# Altium schematic symbol library breath detector.SchLib: 8 symbols
Pins are listed as number, name and electrical type; pins without a type are passive.

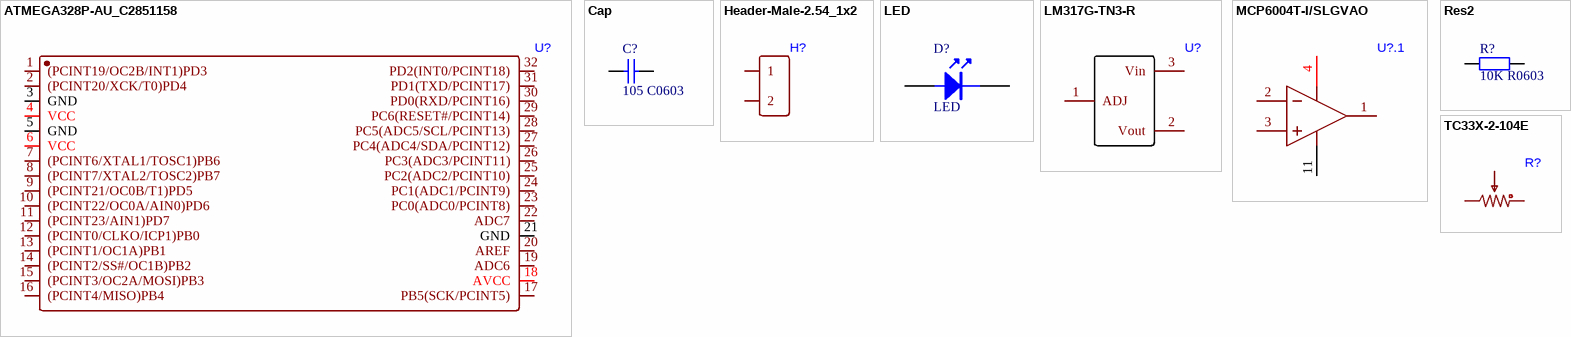
[diagram p0: symbols ATMEGA328P-AU_C2851158 to TC33X-2-104E]

## ATMEGA328P-AU_C2851158
designator U?
footprint TQFP-32_L7.0-W7.0-P0.80-LS9.0-BL
footprint TQFP-32_L7.0-W7.0-P0.80-LS9.0-BL
pins: 1 (PCINT19/OC2B/INT1)PD3, 2 (PCINT20/XCK/T0)PD4, 3 GND, 4 VCC, 5 GND, 6 VCC, 7 (PCINT6/XTAL1/TOSC1)PB6, 8 (PCINT7/XTAL2/TOSC2)PB7, 9 (PCINT21/OC0B/T1)PD5, 10 (PCINT22/OC0A/AIN0)PD6, 11 (PCINT23/AIN1)PD7, 12 (PCINT0/CLKO/ICP1)PB0, 13 (PCINT1/OC1A)PB1, 14 (PCINT2/SS#/OC1B)PB2, 15 (PCINT3/OC2A/MOSI)PB3, 16 (PCINT4/MISO)PB4, 17 PB5(SCK/PCINT5), 18 AVCC, 19 ADC6, 20 AREF, 21 GND, 22 ADC7, 23 PC0(ADC0/PCINT8), 24 PC1(ADC1/PCINT9), 25 PC2(ADC2/PCINT10), 26 PC3(ADC3/PCINT11), 27 PC4(ADC4/SDA/PCINT12), 28 PC5(ADC5/SCL/PCINT13), 29 PC6(RESET#/PCINT14), 30 PD0(RXD/PCINT16), 31 PD1(TXD/PCINT17), 32 PD2(INT0/PCINT18)

## Cap
designator C?, comment 105 C0603
Value: 104; Published: 8-Jun-2000; LatestRevisionDate: 17-Jul-2002; LatestRevisionNote: Re-released for DXP Platform.; Publisher: Altium Limited
simulation model CAP (Capacitor)
signal-integrity model Cap
footprint C 0603 (无极性贴片电容)
footprint C 0603 (无极性贴片电容)
pins: 1, 2

## Header-Male-2.54_1x2
designator H?
footprint HDR-TH_2P-P2.54-V-M-1
footprint HDR-TH_2P-P2.54-V-M-1
pins: 1, 2

## LED
designator D?
footprint LED 0805G (绿色0805LED)
footprint LED 0805G (绿色0805LED)
pins: 1, 2

## LM317G-TN3-R
designator U?
footprint TO-252-2_L6.6-W6.1-P4.57-LS9.9-TL-CW
footprint RES-ADJ-SMD_TC33X-2-104E
pins: 1 ADJ, 2 Vout, 3 Vin

## MCP6004T-I/SLGVAO
designator U?.1
footprint SOIC-14_L8.7-W3.9-P1.27-LS6.0-BL
footprint SOIC-14_L8.7-W3.9-P1.27-LS6.0-BL
pins: 1 VOUT A, 2 VIN A-, 3 VIN A+, 4 VDD, 11 VSS

## Res2
designator R?, comment 10K R0603
Published: 8-Jun-2000; LatestRevisionDate: 17-Jul-2002; LatestRevisionNote: Re-released for DXP Platform.; Publisher: Altium Limited
simulation model RESISTOR (Resistor)
signal-integrity model Res
footprint R 0603 (1/10W贴片电阻)
footprint R 0603 (1/10W贴片电阻)
pins: 1, 2

## TC33X-2-104E
designator R?
footprint RES-ADJ-SMD_TC33X-2-104E
footprint RES-ADJ-SMD_TC33X-2-104E
pins: 1, 2, 3